# EAGLE library part WING_8BIT (library GadgetFactory_Pub)
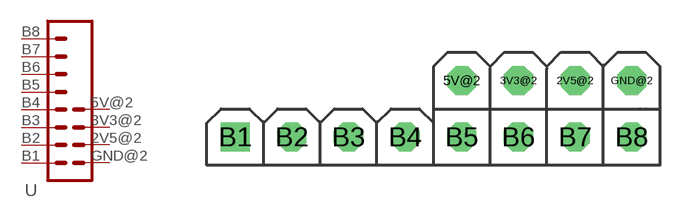
[diagram p1: symbol with the pads of WINGSIDE_8BIT; footprint WINGSIDE_8BIT]

Designator prefix -

## WING_8BIT  [WINGSIDE_8BIT]
2V5@2  2V5  pas
3V3@2  3V3  pas
5V@2  5V  pas
B1  1  pas
B2  2  pas
B3  3  pas
B4  4  pas
B5  5  pas
B6  6  pas
B7  7  pas
B8  8  pas
GND@2  GND  pas

## Footprint WINGSIDE_8BIT (pad centres in mm)
drill 0.8 octagon: 2V5@2 16.51,3.81; 3V3@2 13.97,3.81; 5V@2 11.43,3.81; B2 3.81,1.27; B3 6.35,1.27; B4 8.89,1.27; B5 11.43,1.27; B6 13.97,1.27; B7 16.51,1.27; B8 19.05,1.27; GND@2 19.05,3.81
drill 0.8 square: B1 1.27,1.27